# Altium integrated library ecs.IntLib: 2 symbols
Pins are listed as number, name and electrical type; pins without a type are passive.

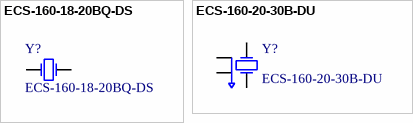
[diagram p0: symbols ECS-160-18-20BQ-DS to ECS-160-20-30B-DU]

## ECS-160-18-20BQ-DS
designator Y?
Crystal, 16.000MHz, 18pF, 100ppm, -40 to 125 C, 40 Ω
footprint CSM-8Q
pins: 1, 3

## ECS-160-20-30B-DU
designator Y?
Crystal, 16.000MHz, 20pF, 100ppm, -55 to 125 C, 60 Ω
footprint ECX-53B
pins: 1, 2, 3, 4